# Altium footprint library Fuses.PcbLib: 7 footprints
Each footprint in its own frame and in the unit in brackets; x right, y up, seen from the top. Pads: shape width x height; smd on the part's side, far side on the other; paste and mask are expansions set on the pad; w line width, h text height; cw(c..) or ccw(c..) is an arc to the next point about the centre after c.
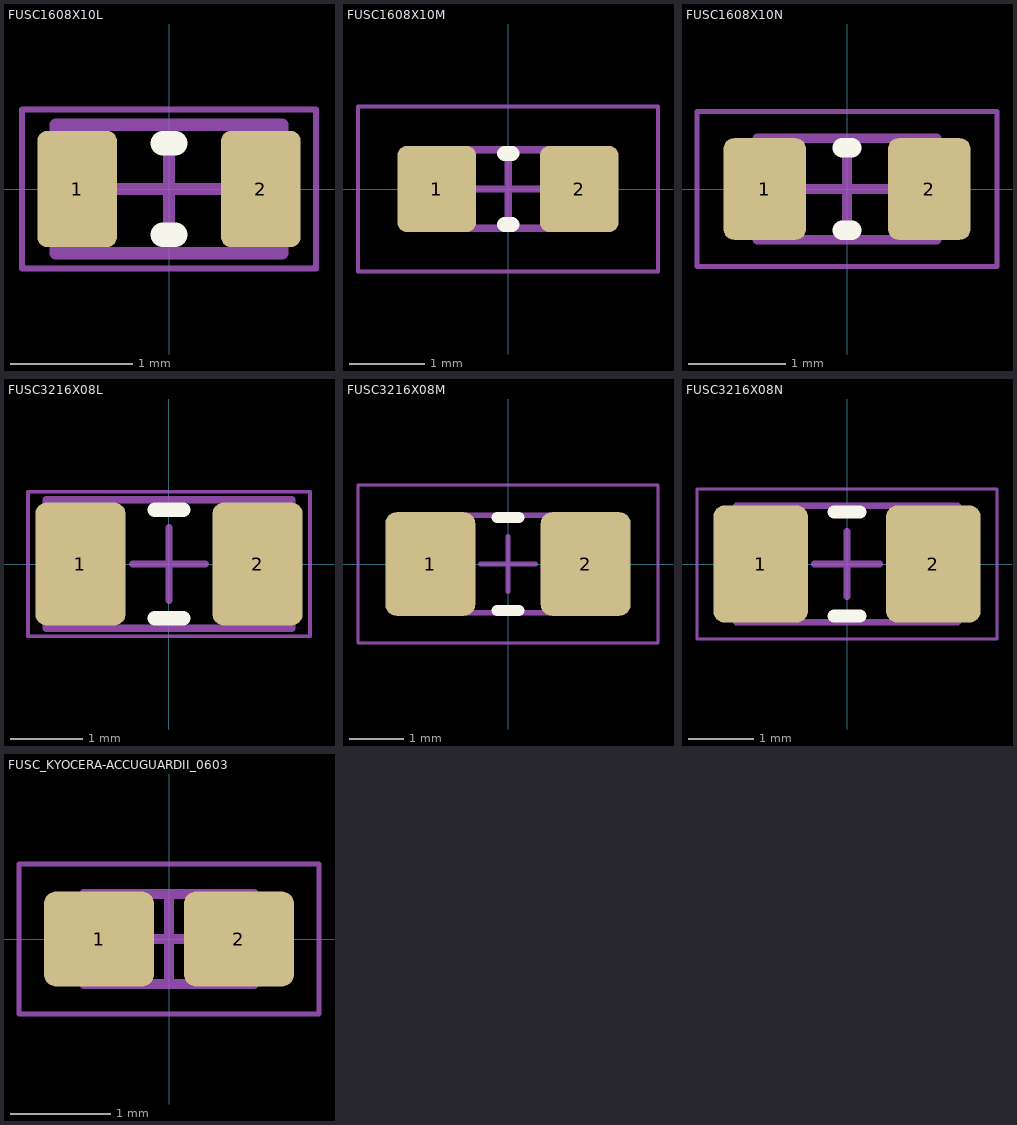
[diagram p0: the footprints below, top view; thin cyan lines are the x and y axes]

## FUSC1608X10L [mm] "Chip Resistor, 2-Leads, Body 1.65x0.85mm, IPC High Density"
height 1
pads (2):
  rrect25% 0.65x0.95 smd paste+0 mask+0.05: 1(-0.75,0) 2(0.75,0)
Top Overlay:
  lines w0.2: -0.05,-0.375 0.05,-0.375 ; -0.05,0.375 0.05,0.375
Top Component Outline:
  lines w0.1: -0.925,-0.525 0.925,-0.525 0.925,0.525 -0.925,0.525 -0.925,-0.525
Top Courtyard:
  lines w0.05: -1.2,-0.65 -1.2,0.65 1.2,0.65 1.2,-0.65 -1.2,-0.65
Top Component Center:
  lines w0.1: -0.5,0 0.5,0 ; 0,-0.5 0,0.5
Top Designator (Mech15):
  text ".Designator" at -4.04,-0.476 h2
Top Assembly:
  lines w0.1: -0.925,-0.525 -0.925,0.525 0.925,0.525 0.925,-0.525 -0.925,-0.525
  text ".Designator" at -4.04,-0.476 h2
3D body "BOURNS_MF-FSMF050X.step": height 0.84, standoff 0.01, extent -0.825,-0.425 0.825,0.425

## FUSC1608X10M [mm] "Chip Resistor, 2-Leads, Body 1.65x0.85mm, IPC Low Density"
height 1
pads (2):
  rrect25% 1.05x1.15 smd paste+0 mask+0.05: 1(-0.95,0) 2(0.95,0)
Top Overlay:
  lines w0.2: -0.05,-0.475 0.05,-0.475 ; -0.05,0.475 0.05,0.475
Top Component Outline:
  lines w0.1: -0.925,-0.525 -0.925,0.525 0.925,0.525 0.925,-0.525 -0.925,-0.525
Top Courtyard:
  lines w0.05: -2,-1.1 -2,1.1 2,1.1 2,-1.1 -2,-1.1
Top Component Center:
  lines w0.1: -0.5,0 0.5,0 ; 0,-0.5 0,0.5
Top Designator (Mech15):
  text ".Designator" at -4.04,-0.476 h2
Top Assembly:
  lines w0.1: -0.925,-0.525 -0.925,0.525 0.925,0.525 0.925,-0.525 -0.925,-0.525
  text ".Designator" at -4.04,-0.476 h2
3D body "BOURNS_MF-FSMF050X.step": height 0.84, standoff 0.01, extent -0.825,-0.425 0.825,0.425

## FUSC1608X10N [mm] "Chip Resistor, 2-Leads, Body 1.65x0.85mm, IPC Medium Density"
height 1
pads (2):
  rrect25% 0.85x1.05 smd paste+0 mask+0.05: 1(-0.85,0) 2(0.85,0)
Top Overlay:
  lines w0.2: -0.05,-0.425 0.05,-0.425 ; -0.05,0.425 0.05,0.425
Top Component Outline:
  lines w0.1: -0.925,-0.525 -0.925,0.525 0.925,0.525 0.925,-0.525 -0.925,-0.525
Top Courtyard:
  lines w0.05: -1.55,-0.8 -1.55,0.8 1.55,0.8 1.55,-0.8 -1.55,-0.8
Top Component Center:
  lines w0.1: -0.5,0 0.5,0 ; 0,-0.5 0,0.5
Top Designator (Mech15):
  text ".Designator" at -4.04,-0.476 h2
Top Assembly:
  lines w0.1: -0.925,-0.525 -0.925,0.525 0.925,0.525 0.925,-0.525 -0.925,-0.525
  text ".Designator" at -4.04,-0.476 h2
3D body "BOURNS_MF-FSMF050X.step": height 0.84, standoff 0.01, extent -0.825,-0.425 0.825,0.425

## FUSC3216X08L [mm] "Chip Fuse, 2-Leads, Body 3.20x1.58mm, IPC High Density"
height 0.85
pads (2):
  rrect25% 1.25x1.7 smd paste+0 mask+0.05: 1(-1.225,0) 2(1.225,0)
Top Overlay:
  lines w0.2: -0.2,-0.75 0.2,-0.75 ; -0.2,0.75 0.2,0.75
Top Component Outline:
  lines w0.1: -1.7,-0.89 -1.7,0.89 1.7,0.89 1.7,-0.89 -1.7,-0.89
Top Courtyard:
  lines w0.05: -1.95,-1 1.95,-1 1.95,1 -1.95,1 -1.95,-1
Top Component Center:
  lines w0.1: -0.5,0 0.5,0 ; 0,-0.5 0,0.5
Top Designator (Mech15):
  text ".Designator" at -4.04,-0.476 h2
Top Assembly:
  lines w0.1: -1.7,-0.89 1.7,-0.89 1.7,0.89 -1.7,0.89 -1.7,-0.89
  text ".Designator" at -4.04,-0.476 h2
3D body "BEL_1206.step": height 0.86, standoff 0.01, extent -1.6,-0.79 1.6,0.79

## FUSC3216X08M [mm] "Chip Fuse, 2-Leads, Body 3.20x1.58mm, IPC Low Density"
height 0.85
pads (2):
  rrect25% 1.65x1.9 smd paste+0 mask+0.05: 1(-1.425,0) 2(1.425,0)
Top Overlay:
  lines w0.2: -0.2,-0.85 0.2,-0.85 ; -0.2,0.85 0.2,0.85
Top Component Outline:
  lines w0.1: -1.7,-0.89 1.7,-0.89 1.7,0.89 -1.7,0.89 -1.7,-0.89
Top Courtyard:
  lines w0.05: -2.75,-1.45 2.75,-1.45 2.75,1.45 -2.75,1.45 -2.75,-1.45
Top Component Center:
  lines w0.1: -0.5,0 0.5,0 ; 0,-0.5 0,0.5
Top Designator (Mech15):
  text ".Designator" at -4.04,-0.476 h2
Top Assembly:
  lines w0.1: -1.7,-0.89 1.7,-0.89 1.7,0.89 -1.7,0.89 -1.7,-0.89
  text ".Designator" at -4.04,-0.476 h2
3D body "BEL_1206.step": height 0.86, standoff 0.01, extent -1.6,-0.79 1.6,0.79

## FUSC3216X08N [mm] "Chip Fuse  2-Leads, Body 3.20x1.58mm, IPC Medium Density"
height 0.85
pads (2):
  rrect25% 1.45x1.8 smd paste+0 mask+0.05: 1(-1.325,0) 2(1.325,0)
Top Overlay:
  lines w0.2: -0.2,-0.8 0.2,-0.8 ; -0.2,0.8 0.2,0.8
Top Component Outline:
  lines w0.1: -1.7,-0.89 1.7,-0.89 1.7,0.89 -1.7,0.89 -1.7,-0.89
Top Courtyard:
  lines w0.05: -2.3,-1.15 2.3,-1.15 2.3,1.15 -2.3,1.15 -2.3,-1.15
Top Component Center:
  lines w0.1: -0.5,0 0.5,0 ; 0,-0.5 0,0.5
Top Designator (Mech15):
  text ".Designator" at -4.04,-0.476 h2
Top Assembly:
  lines w0.1: -1.7,-0.89 1.7,-0.89 1.7,0.89 -1.7,0.89 -1.7,-0.89
  text ".Designator" at -4.04,-0.476 h2
3D body "BEL_1206.step": height 0.86, standoff 0.01, extent -1.6,-0.79 1.6,0.79

## FUSC_KYOCERA-ACCUGUARDII_0603 [mm] "Thin Film Fuse, Size 0603, Accu-Guard II Series"
height 0.805
pads (2):
  rrect25% 1.1x0.95 smd paste+0 mask+0.05: 1(-0.7,0) 2(0.7,0)
Top Component Outline:
  lines w0.1: -0.85,-0.45 0.85,-0.45 0.85,0.45 -0.85,0.45 -0.85,-0.45
Top Courtyard:
  lines w0.05: -1.5,-0.75 -1.5,0.75 1.5,0.75 1.5,-0.75 -1.5,-0.75
Top Component Center:
  lines w0.1: -0.45,0 0.45,0 ; 0,-0.45 0,0.45
Top Designator (Mech15):
  text ".Designator" at -4.04,-0.476 h2
Top Assembly:
  lines w0.1: -0.85,-0.45 -0.85,0.45 0.85,0.45 0.85,-0.45 -0.85,-0.45
  text ".Designator" at -4.04,-0.476 h2
3D body "KYOCERA_F0603.step": height 0.8, standoff -0.01, extent -0.8,-0.45 0.8,0.45